# Altium footprint library GE0805C-2.PcbLib: 1 footprints
Each footprint in its own frame and in the unit in brackets; x right, y up, seen from the top. Pads: shape width x height; smd on the part's side, far side on the other; paste and mask are expansions set on the pad; w line width, h text height; cw(c..) or ccw(c..) is an arc to the next point about the centre after c.
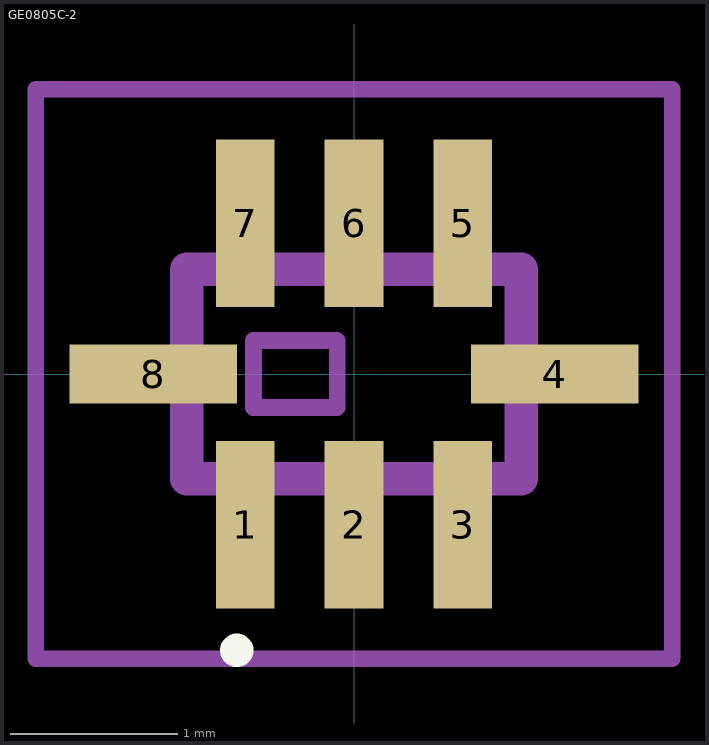
[diagram p0: the footprint, top view; thin cyan lines are the x and y axes]

## GE0805C-2 [mm]
pads (8):
  rect 0.35x1 smd mask+0.05: 1(-0.65,-0.9) 2(0,-0.9) 3(0.65,-0.9) 5(0.65,0.9) 6(0,0.9) 7(-0.65,0.9)
  rect 1x0.35 smd mask+0.05: 4(1.2,0) 8(-1.2,0)
Top Overlay:
  lines w0.1: -0.7,-1.7 cw(c-0.7,-1.65) -0.7,-1.6 cw(c-0.7,-1.65) -0.7,-1.7
Top Courtyard:
  lines w0.2: -1,-0.625 1,-0.625 1,0.625 -1,0.625 -1,-0.625
Top Assembly:
  lines w0.1: -0.6,-0.2 -0.1,-0.2 -0.1,0.2 -0.2,0.2 -0.6,0.2 -0.6,-0.2
Mechanical 15:
  lines w0.1: -1.9,-1.7 1.9,-1.7 1.9,1.7 -1.9,1.7 -1.9,-1.7
3D body "LFCG-1200+.stp": height 1.1, standoff 0, extent -1.665,-1.365 1.665,1.365